# Altium schematic symbol library Charger.SchLib: 9 symbols
Pins are listed as number, name and electrical type; pins without a type are passive.

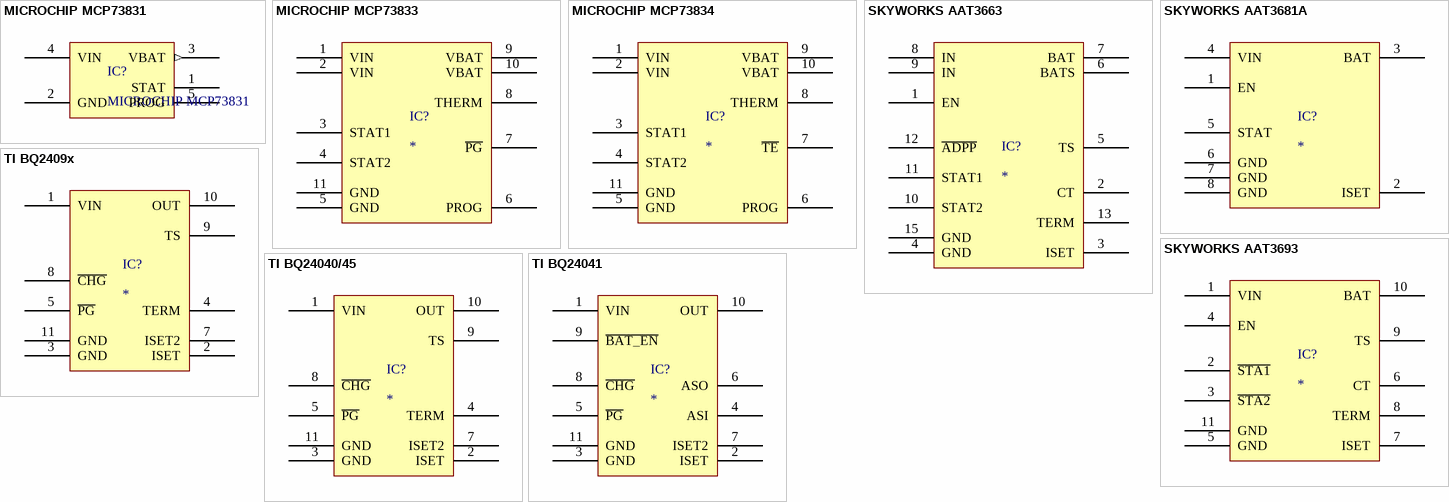
[diagram p0: symbols MICROCHIP MCP73831 to TI BQ24041]

## MICROCHIP MCP73831
designator IC?
Miniature Single-Cell, Fully integrated Li-Ion, Li-Polymer charge management controllers
pins: 1 STAT, 2 GND, 3 VBAT (out), 4 VIN, 5 PROG

## MICROCHIP MCP73833
designator IC?
pins: 1 VIN, 2 VIN, 3 STAT1, 4 STAT2, 5 GND, 6 PROG, 7 ~{PG}, 8 THERM, 9 VBAT, 10 VBAT, 11 GND

## MICROCHIP MCP73834
designator IC?
pins: 1 VIN, 2 VIN, 3 STAT1, 4 STAT2, 5 GND, 6 PROG, 7 ~{TE}, 8 THERM, 9 VBAT, 10 VBAT, 11 GND

## SKYWORKS AAT3663
designator IC?
pins: 1 EN, 2 CT, 3 ISET, 4 GND, 5 TS, 6 BATS, 7 BAT, 8 IN, 9 IN, 10 STAT2, 11 STAT1, 12 ~{ADPP}, 13 TERM, 15 GND

## SKYWORKS AAT3681A
designator IC?
pins: 1 EN, 2 ISET, 3 BAT, 4 VIN, 5 STAT, 6 GND, 7 GND, 8 GND

## SKYWORKS AAT3693
designator IC?
pins: 1 VIN, 2 ~{STA1}, 3 ~{STA2}, 4 EN, 5 GND, 6 CT, 7 ISET, 8 TERM, 9 TS, 10 BAT, 11 GND

## TI BQ2409x
designator IC?
pins: 1 VIN, 2 ISET, 3 GND, 4 TERM, 5 ~{PG}, 7 ISET2, 8 ~{CHG}, 9 TS, 10 OUT, 11 GND

## TI BQ24040/45
designator IC?
pins: 1 VIN, 2 ISET, 3 GND, 4 TERM, 5 ~{PG}, 7 ISET2, 8 ~{CHG}, 9 TS, 10 OUT, 11 GND

## TI BQ24041
designator IC?
pins: 1 VIN, 2 ISET, 3 GND, 4 ASI, 5 ~{PG}, 6 ASO, 7 ISET2, 8 ~{CHG}, 9 ~{BAT_EN}, 10 OUT, 11 GND